# Altium footprint library 110-00315-D_B1-DevKit.PcbLib: 70 footprints (part 4 of 5)
Each footprint in its own frame and in the unit in brackets; x right, y up, seen from the top. Pads: shape width x height; smd on the part's side, far side on the other; paste and mask are expansions set on the pad; w line width, h text height; cw(c..) or ccw(c..) is an arc to the next point about the centre after c.
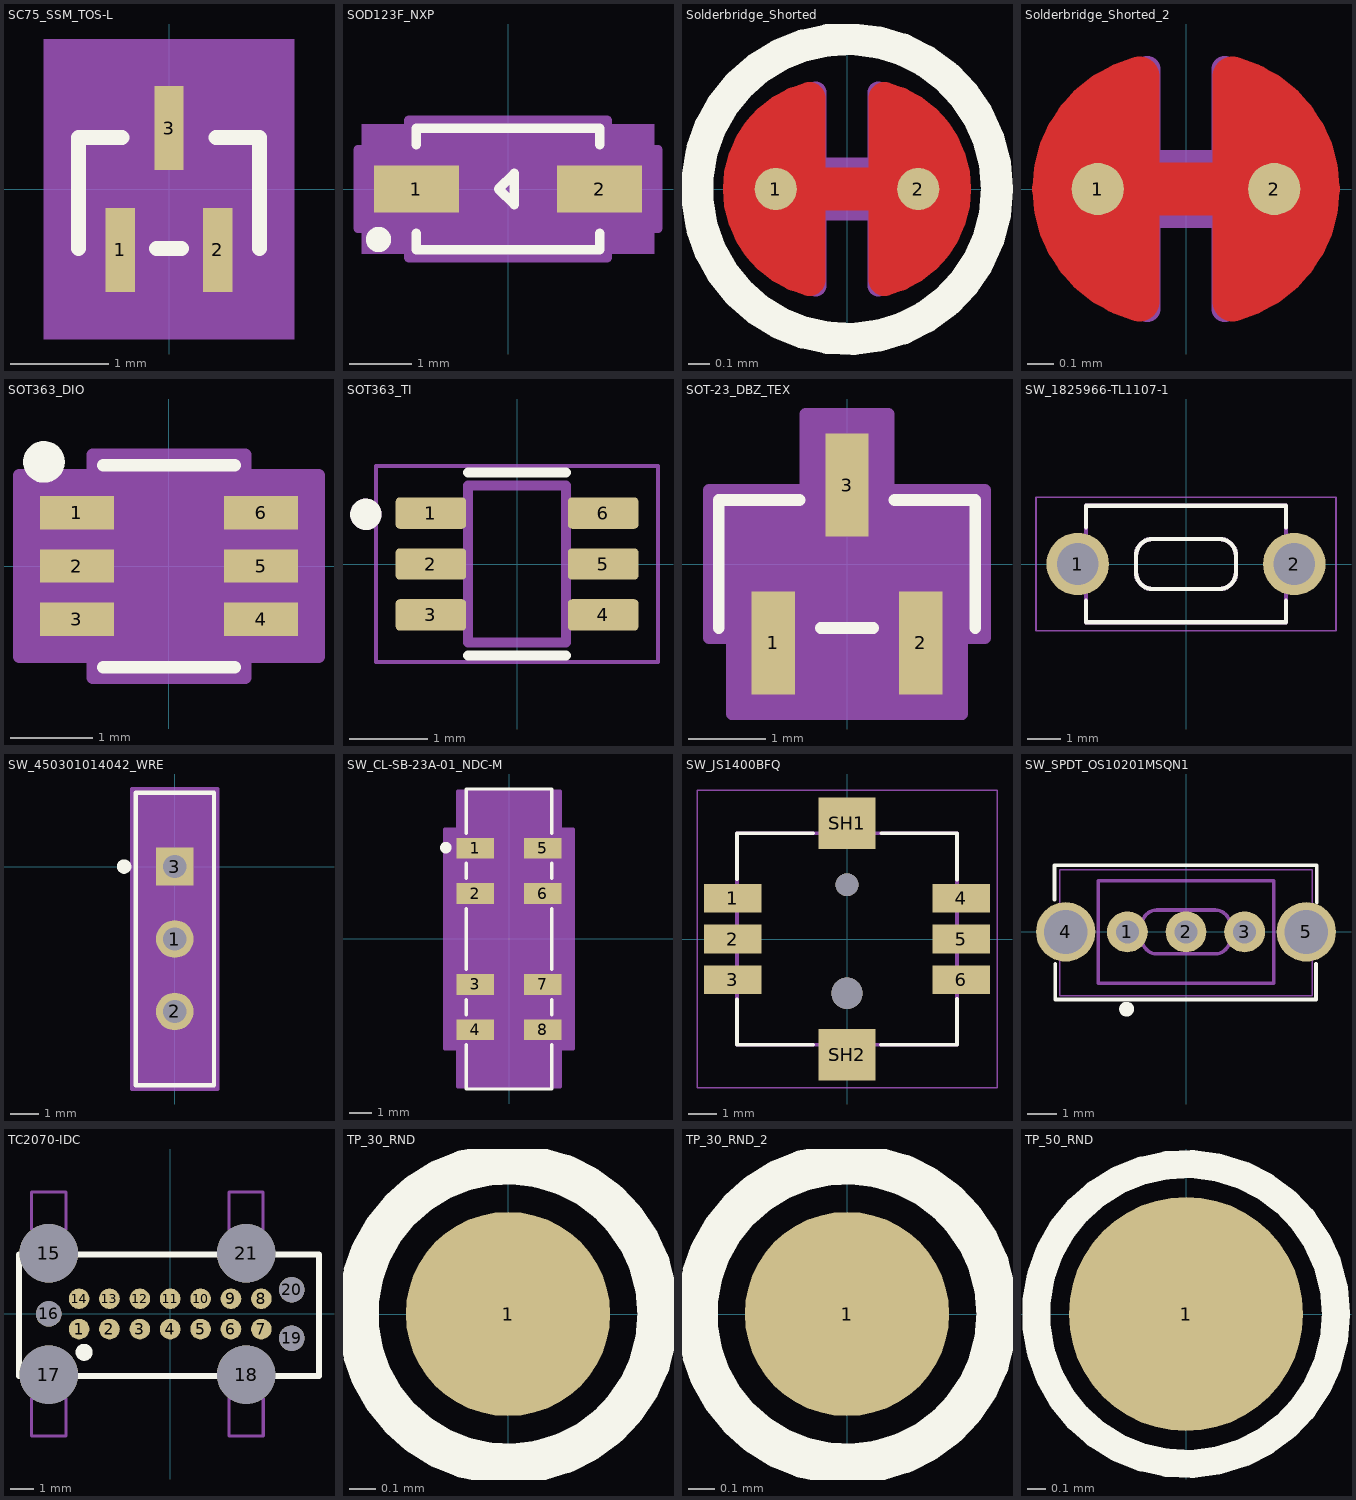
[diagram p3: the footprints below, top view; thin cyan lines are the x and y axes]

## SC75_SSM_TOS-L [mm]
height 8.58
pads (3):
  rect 0.3x0.856 smd paste+0: 1(-0.5,-0.624) 2(0.5,-0.624) 3(0,0.624)
Top Overlay:
  lines w0.152: -0.927,-0.61 -0.927,0.527 -0.483,0.527 ; -0.127,-0.61 0.127,-0.61 ; 0.483,0.527 0.927,0.527 0.927,-0.61
Mechanical 5:
  region: -1.283,1.535 1.283,1.535 1.283,-1.535 -1.283,-1.535
Mechanical 13:
  circle w0: c-0.5,-0.146 r0.076
  lines w0.025: -0.8,-0.4 0.8,-0.4 0.8,0.4 -0.8,0.4 -0.8,-0.4 ; -0.65,-0.9 -0.65,-0.4 -0.35,-0.4 -0.35,-0.9 -0.65,-0.9 ; -0.15,0.4 0.15,0.4 0.15,0.9 -0.15,0.9 -0.15,0.4 ; 0.35,-0.9 0.35,-0.4 0.65,-0.4 0.65,-0.9 0.35,-0.9
Mechanical 15:
  region: -0.902,-0.502 -0.902,0.502 -0.252,0.502 -0.252,1.154 0.252,1.154 0.252,0.502 0.902,0.502 0.902,-0.502 0.752,-0.502 0.752,-1.154 -0.752,-1.154 -0.752,-0.502
  lines w0.152: -0.902,-0.502 -0.902,0.502 -0.252,0.502 -0.252,1.154 0.252,1.154 0.252,0.502 0.902,0.502 0.902,-0.502 0.752,-0.502 0.752,-1.154 -0.752,-1.154 -0.752,-0.502 -0.902,-0.502
3D body "SSM.STEP": height 0.75, standoff 0, extent -0.8,-0.8 0.8,0.8
3D body: height 0.25, standoff 0, extent 0,0 0.254,0.254

## SOD123F_NXP [mil]
height 337.8
pads (2):
  rect 54x30 smd paste+0 mask+4: 1(-58,0) 2(58,0)
Top Overlay:
  circle w10: c-82,-32 r3
  lines w6: -58,-28.1 -58,-38.5 58,-38.5 58,-28.1 ; -58,28.1 -58,38.5 58,38.5 58,28.1 ; -6,0 4,10 4,2 4,-10 -6,0
Mechanical 5:
  region: 92.5,-41 -92.5,-41 -92.5,41 92.5,41
Mechanical 13:
  lines w1: -53,-16.75 -36.25,-33.5 ; -53,16.75 -36.25,33.5 ; -71,-14 -71,14 -53,14 -53,-14 -71,-14 ; -53,-33.5 53,-33.5 53,33.5 -53,33.5 -53,-33.5 ; 53,-14 53,14 71,14 71,-14 53,-14
Mechanical 15:
  region: -63,-25 -95,-25 -95,25 -63,25 -63,43.5 63,43.5 63,25 95,25 95,-25 63,-25 63,-43.5 -63,-43.5
  lines w6: -95,-25 -95,25 -63,25 -63,43.5 63,43.5 63,25 95,25 95,-25 63,-25 63,-43.5 -63,-43.5 -63,-25 -95,-25
3D body "SOD123F_NXP.step": height 47.09, standoff 0, extent -70.98,-33.5 70.98,33.5
3D body "SOD123F_NXP.step": height 47.09, standoff 0, extent -70.98,-33.5 70.98,33.5

## Solderbridge_Shorted [mm]
height 8.58
pads (2):
  round 0.2 smd paste-10: 1(-0.338,0) 2(0.338,0)
Top Layer:
  region: 0.102,0.432 0.178,0.505 0.296,0.467 0.361,0.424 0.434,0.351 0.488,0.292 0.546,0.193 0.574,0.099 0.569,-0.122 0.544,-0.193 0.46,-0.33 0.376,-0.411 0.284,-0.469 0.183,-0.5 0.132,-0.483 0.102,-0.43
  region: -0.102,-0.432 -0.178,-0.505 -0.296,-0.467 -0.361,-0.424 -0.434,-0.351 -0.488,-0.292 -0.546,-0.193 -0.574,-0.099 -0.569,0.122 -0.544,0.193 -0.46,0.33 -0.376,0.411 -0.284,0.469 -0.183,0.5 -0.132,0.483 -0.102,0.43
  lines w0.152: -0.178,-0.431 cw(c-0.068,0) -0.178,0.431 ; 0.178,-0.431 ccw(c0.068,0) 0.178,0.431
  lines w0.203: -0.338,0 0.338,0
Top Overlay:
  circle w0.152: c0,0 r0.711
Top Solder:
  circle w0.61: c-0.028,0 r0.279
  circle w0.61: c0.028,0 r0.279
Mechanical 5:
  lines w0.1: -0.148,-0.459 cw(c-0.067,0) -0.148,0.459 -0.148,0.1 0.148,0.1 0.148,0.459 cw(c0.067,0) 0.148,-0.459 0.148,-0.1 -0.148,-0.1 -0.148,-0.459

## Solderbridge_Shorted_2 [mm]
pads (2):
  round 0.2 smd paste-10: 1(-0.338,0) 2(0.338,0)
Top Layer:
  region: -0.102,-0.432 -0.178,-0.505 -0.296,-0.467 -0.361,-0.424 -0.434,-0.351 -0.488,-0.292 -0.546,-0.193 -0.574,-0.099 -0.569,0.122 -0.544,0.193 -0.46,0.33 -0.376,0.411 -0.284,0.469 -0.183,0.5 -0.132,0.483 -0.102,0.43
  region: 0.102,0.432 0.178,0.505 0.296,0.467 0.361,0.424 0.434,0.351 0.488,0.292 0.546,0.193 0.574,0.099 0.569,-0.122 0.544,-0.193 0.46,-0.33 0.376,-0.411 0.284,-0.469 0.183,-0.5 0.132,-0.483 0.102,-0.43
  lines w0.152: -0.178,-0.431 cw(c-0.068,0) -0.178,0.431 ; 0.178,-0.431 ccw(c0.068,0) 0.178,0.431
  lines w0.203: -0.338,0 0.338,0
Top Solder:
  circle w0.61: c0.028,0 r0.279
  circle w0.61: c-0.028,0 r0.279
Mechanical 7:
  lines w0.1: -0.148,-0.459 cw(c-0.067,0) -0.148,0.459 -0.148,0.1 0.148,0.1 0.148,0.459 cw(c0.067,0) 0.148,-0.459 0.148,-0.1 -0.148,-0.1 -0.148,-0.459
  text ".Designator" at -0.635,0.635 h0.38

## SOT363_DIO [mil]
pads (6):
  rect 35.5x16 smd paste+0 mask+0: 1(-44.25,25.59) 2(-44.25,0) 3(-44.25,-25.59) 4(44.25,-25.59) 5(44.25,0) 6(44.25,25.59)
Top Overlay:
  circle w10: c-60,50 r5
  lines w6: -31.5,-48.5 31.5,-48.5 ; -31.5,48.5 31.5,48.5
Mechanical 13:
  lines w0: -12,43.5 ccw(c0,43.5) 12,43.5
  lines w1: -48,-32.59 -26.5,-32.59 -26.5,-18.59 -48,-18.59 -48,-32.59 ; -48,-7 -26.5,-7 -26.5,7 -48,7 -48,-7 ; -48,18.59 -26.5,18.59 -26.5,32.59 -48,32.59 -48,18.59 ; -26.5,-43.5 -26.5,43.5 26.5,43.5 26.5,-43.5 -26.5,-43.5 ; 26.5,-32.59 48,-32.59 48,-18.59 26.5,-18.59 26.5,-32.59 ; 26.5,-7 48,-7 48,7 26.5,7 26.5,-7 ; 26.5,18.59 48,18.59 48,32.59 26.5,32.59 26.5,18.59
Mechanical 15:
  region: -36.5,-43.59 -72,-43.59 -72,43.59 -36.5,43.59 -36.5,53.5 36.5,53.5 36.5,43.59 72,43.59 72,-43.59 36.5,-43.59 36.5,-53.5 -36.5,-53.5
  lines w6: -72,-43.59 -36.5,-43.59 -36.5,-53.5 36.5,-53.5 36.5,-43.59 72,-43.59 72,43.59 36.5,43.59 36.5,53.5 -36.5,53.5 -36.5,43.59 -72,43.59 -72,-43.59
3D body "SOT363_DIO.step": height 43.11, standoff 0, extent -47.99,-43.5 47.99,43.5

## SOT363_TI [mm] "6-TSSOP, SC-88, SOT-363"
height 1.1
pads (6):
  rrect25% 0.9x0.4 smd paste+0 mask+0: 1(-1.1,0.65) 2(-1.1,0) 3(-1.1,-0.65) 4(1.1,-0.65) 5(1.1,0) 6(1.1,0.65)
Top Overlay:
  circle w0.2: c-1.93,0.635 r0.1
  lines w0.127: -0.625,-1.17 0.625,-1.17 ; -0.625,1.17 0.625,1.17
Top Solder:
  drawing of 6 lines, arcs and shapes, not listed
Mechanical 13:
  circle w0.2: c-1.93,0.635 r0.1
  lines w0.127: -0.625,-1 0.625,-1 0.625,1 -0.625,1 -0.625,-1
Mechanical 15:
  lines w0.05: -1.8,-1.25 1.8,-1.25 1.8,1.25 -1.8,1.25 -1.8,-1.25
3D body "TXU0101DCKR.STEP": height 1.1, standoff 0, extent -1.05,-1 1.05,1

## SOT-23_DBZ_TEX [mil]
pads (3):
  rect 22x52 smd paste+0 mask+0: 1(-37.4,-40) 2(37.4,-40) 3(0,40)
Top Overlay:
  lines w6: -65,-32.5 -65,32.5 -24.1,32.5 ; -13.3,-32.5 13.3,-32.5 ; 24.1,32.5 65,32.5 65,-32.5
Mechanical 13:
  circle w0: c-50,-17.5 r5
  lines w1: -60,-27.5 60,-27.5 60,27.5 -60,27.5 -60,-27.5 ; -47.4,-52 -47.4,-27.5 -27.4,-27.5 -27.4,-52 -47.4,-52 ; -10,27.5 10,27.5 10,52 -10,52 -10,27.5 ; 27.4,-52 27.4,-27.5 47.4,-27.5 47.4,-52 27.4,-52
Mechanical 15:
  region: -70,-37.5 -70,37.5 -21,37.5 -21,76 21,76 21,37.5 70,37.5 70,-37.5 58.4,-37.5 58.4,-76 -58.4,-76 -58.4,-37.5
  region: 60,-27.5 -60,-27.5 -60,27.5 60,27.5
  lines w6: -70,-37.5 -70,37.5 -21,37.5 -21,76 21,76 21,37.5 70,37.5 70,-37.5 58.4,-37.5 58.4,-76 -58.4,-76 -58.4,-37.5 -70,-37.5
3D body "SOT-23_DBZ_TEX.step": height 44.09, standoff 0, extent -60,-52.01 60,52.01

## SW_1825966-TL1107-1 [mm]
height 8.58
pads (2):
  round 1.875 hole 1.25: 1(-3.25,0) 2(3.25,0)
Top Overlay:
  lines w0.127: -3,-1.1 -3,-1.75 3,-1.75 3,-1.1 ; -3,1.1 -3,1.75 3,1.75 3,1.092 ; -1.5,-0.25 ccw(c-1,-0.25) -1,-0.75 1,-0.75 ccw(c1,-0.25) 1.5,-0.25 1.5,0.25 ccw(c1,0.25) 1,0.75 -1,0.75 ccw(c-1,0.25) -1.5,0.25 -1.5,-0.25
Mechanical 13:
  lines w0.127: -3,-1.75 -3,1.75 3,1.75 3,-1.75 -3,-1.75 ; -1.5,-0.25 ccw(c-1,-0.25) -1,-0.75 1,-0.75 ccw(c1,-0.25) 1.5,-0.25 1.5,0.25 ccw(c1,0.25) 1,0.75 -1,0.75 ccw(c-1,0.25) -1.5,0.25 -1.5,-0.25
Mechanical 15:
  lines w0.05: -4.5,-2 4.5,-2 4.5,2 -4.5,2 -4.5,-2
3D body "TL1107BF180WQ.STEP": height 4.7, standoff -3.8, extent -3.896,-1.775 3.998,1.725

## SW_450301014042_WRE [mil]
height 337.8
pads (3):
  round 52 / inner round 60 / far side round 52 hole 32 paste-99999 mask+0: 1(0,-100) 2(0,-200)
  rect 52x52 / inner round 60 / far side rect 52x52 hole 32 paste-99999 mask+0: 3(0,0)
Top Overlay:
  circle w10: c-70,0 r5
  lines w6: -54,-302 -54,102 54,102 54,-302 -54,-302
Mechanical 13:
  region: 49,-266 -49,-266 -49,-100 49,-100
  lines w1: -49,-297 -49,97 49,97 49,-297 -49,-297 ; -49,-266 49,-266 49,66 -49,66 -49,-266
  text "*" at -46.5,-25 h50
Mechanical 15:
  region: 59,-307 -59,-307 -59,107 59,107
  lines w6: -59,-307 -59,107 59,107 59,-307 -59,-307
3D body "450301014042_Download_STP_450301014042_rev1.stp": height 251.97, standoff -196.85, extent -50,-296.85 48.43,96.85

## SW_CL-SB-23A-01_NDC-M [mil]
pads (8):
  rect 65x36 smd paste+0: 1(-58.5,157.48) 2(-58.5,78.74) 3(-58.5,-78.74) 4(-58.5,-157.48) 5(58.5,157.48) 6(58.5,78.74) 7(58.5,-78.74) 8(58.5,-157.48)
Top Overlay:
  circle w10: c-109.5,158.4 r5
  lines w6: -74,-183.58 -74,-260 74,-260 74,-183.58 ; -74,-131.38 -74,-104.84 ; -74,-52.64 -74,52.64 ; -74,104.84 -74,131.38 ; -74,183.58 -74,260 74,260 74,183.58 ; 74,-131.38 74,-104.84 ; 74,-52.64 74,52.64 ; 74,104.84 74,131.38
Mechanical 13:
  lines w0: -12,236 ccw(c0,236) 12,236
  lines w1: -69,-236 -69,236 69,236 69,-236 -69,-236 ; -69,-169.48 -69,-145.48 -69,-169.48 ; -69,-90.74 -69,-66.74 -69,-90.74 ; -69,66.74 -69,90.74 -69,66.74 ; -69,145.48 -69,169.48 -69,145.48 ; 69,-169.48 69,-145.48 69,-169.48 ; 69,-90.74 69,-66.74 69,-90.74 ; 69,66.74 69,90.74 69,66.74 ; 69,145.48 69,169.48 69,145.48
  text "*" at -51,133.48 h50
Mechanical 15:
  region: -89,-190.48 -111,-190.48 -111,190.48 -89,190.48 -89,256 89,256 89,190.48 111,190.48 111,-190.48 89,-190.48 89,-256 -89,-256
  lines w6: -111,-190.48 -89,-190.48 -89,-256 89,-256 89,-190.48 111,-190.48 111,190.48 89,190.48 89,256 -89,256 -89,190.48 -111,190.48 -111,-190.48
3D body "CL-SB-23A-01T.stp": height 216.74, standoff 0.2, extent -68.9,-236.22 68.9,236.22

## SW_JS1400BFQ [mm]
height 8.58
pads (10):
  rect 2x1 smd: 1(-4,1.425) 2(-4,0) 3(-4,-1.425) 4(4,1.425) 5(4,0) 6(4,-1.425)
  rect 2x1.8 smd: SH1(0,4.05) SH2(0,-4.05)
  round 1.1 hole 1.1 unplated: ""(0,-1.9)
  round 0.8 hole 0.8 unplated: ""(0,1.9)
Top Overlay:
  lines w0.127: -3.85,-2.11 -3.85,-3.7 -1.19,-3.7 ; -3.85,2.09 -3.85,3.7 -1.19,3.7 ; 1.19,-3.7 3.85,-3.7 3.85,-2.1 ; 1.2,3.7 3.85,3.7 3.85,2.08
Mechanical 13:
  lines w0.127: -3.85,-3.7 3.85,-3.7 3.85,3.7 -3.85,3.7 -3.85,-3.7
Mechanical 15:
  lines w0.05: -5.25,-5.2 -5.25,5.2 5.25,5.2 5.25,-5.2 -5.25,-5.2
3D body "JS1400BFQ.stp": height 4.99, standoff -0.51, extent -4.5,-3.9 4.5,3.9

## SW_SPDT_OS10201MSQN1 [mil] "Switch, SPDT slide, PCB vertical, 5 pin"
height 337.8
pads (5):
  round 55 hole 31: 1(-79,0) 2(0,0) 3(79,0)
  round 80 hole 59: 4(-162,0) 5(162,0)
Top Overlay:
  circle w10: c-80,-104 r5
  lines w5: -177,43.31 -177,90 176,90 176,39.37 ; -176,-43.31 -176,-91 175,-91 175,-43.31 ; -59.06,-9.84 -59.06,9.84 ; 59.06,-9.84 59.06,9.84
Mechanical 13:
  lines w5: -118.11,-68.9 118.11,-68.9 118.11,68.9 -118.11,68.9 -118.11,-68.9 ; -59.06,-9.84 ccw(c-39.37,-9.84) -39.37,-29.53 39.37,-29.53 ccw(c39.37,-9.84) 59.06,-9.84 59.06,9.84 ccw(c39.37,9.84) 39.37,29.53 -39.37,29.53 ccw(c-39.37,9.84) -59.06,9.84 -59.06,-9.84
Mechanical 15:
  lines w2: -170,-86 -170,84 170,84 170,-86 -170,-86
3D body "OS102011MS2QN1_b.stp": height 353.23, standoff -99.46, extent -168.29,-85.65 170.29,83.65

## TC2070-IDC [mil]
height 337.8
pads (21):
  round 34 smd paste-42: 1(-150,-25) 2(-100,-25) 3(-50,-25) 4(0,-25) 5(50,-25) 6(100,-25) 7(150,-25) 8(150,25) 9(100,25) 10(50,25) 11(0,25) 12(-50,25) 13(-100,25) 14(-150,25)
  round 96.5 hole 96.5 unplated: 15(-200,100) 17(-200,-100) 18(125,-100) 21(125,100)
  round 42 hole 42 unplated: 16(-200,0) 19(200,-39.96) 20(200,39.96)
Top Overlay:
  circle w16: c-141.8,-63.2 r6
  lines w10: -249,-102 -249,98 245,98 245,-102 -249,-102
Mechanical 1:
  lines w5: -228.2,-200.8 -171.8,-200.8 -171.8,-139.1 -228.2,-139.1 -228.2,-200.8 ; -228.2,139.1 -171.8,139.1 -171.8,200.8 -228.2,200.8 -228.2,139.1 ; 96.7,139 153.1,139 153.1,200.7 96.7,200.7 96.7,139 ; 96.8,-201 96.8,-139.3 153.2,-139.3 153.2,-201 96.8,-201

## TP_30_RND [mil]
height 337.8
pads (1):
  round 30 smd paste-15: 1(0,0)
Top Overlay:
  circle w6: c0,0 r22.02

## TP_30_RND_2 [mil]
pads (1):
  round 30 smd paste-15: 1(0,0)
Top Overlay:
  circle w6: c0,0 r22.02

## TP_50_RND [mm]
height 8.58
pads (1):
  round 1.27 smd paste-0.635: 1(0,0)
Top Overlay:
  circle w0.152: c0,0 r0.813